# Altium footprint library MDBT53_PCBLIB_230719.PcbLib: 2 footprints
Each footprint in its own frame and in the unit in brackets; x right, y up, seen from the top. Pads: shape width x height; smd on the part's side, far side on the other; paste and mask are expansions set on the pad; w line width, h text height; cw(c..) or ccw(c..) is an arc to the next point about the centre after c.
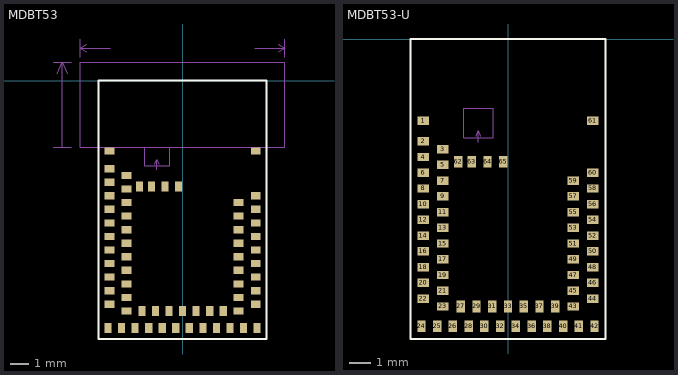
[diagram p0: the footprints below, top view; thin cyan lines are the x and y axes]

## MDBT53 [mm]
pads (65):
  rect 0.55x0.4 smd mask+0: 1(-4.05,-3.9) 2(-4.05,-4.875) 3(-3.1,-5.25) 4(-4.05,-5.625) 5(-3.1,-6) 6(-4.05,-6.375) 7(-3.1,-6.75) 8(-4.05,-7.125) 9(-3.1,-7.5) 10(-4.05,-7.875) 11(-3.1,-8.25) 12(-4.05,-8.625) 13(-3.1,-9) 14(-4.05,-9.375) 15(-3.1,-9.75) 16(-4.05,-10.125) 17(-3.1,-10.5) 18(-4.05,-10.875) 19(-3.1,-11.25) 20(-4.05,-11.625) 21(-3.1,-12) 22(-4.05,-12.375) 23(-3.1,-12.75) 43(3.1,-12.75) 44(4.05,-12.375) 45(3.1,-12) 46(4.05,-11.625) 47(3.1,-11.25) 48(4.05,-10.875) 49(3.1,-10.5) 50(4.05,-10.125) 51(3.1,-9.75) 52(4.05,-9.375) 53(3.1,-9) 54(4.05,-8.625) 55(3.1,-8.25) 56(4.05,-7.875) 57(3.1,-7.5) 58(4.05,-7.125) 59(3.1,-6.75) 60(4.05,-6.375) 61(4.05,-3.9)
  rect 0.4x0.55 smd mask+0: 24(-4.125,-13.7) 25(-3.375,-13.7) 26(-2.625,-13.7) 27(-2.25,-12.75) 28(-1.875,-13.7) 29(-1.5,-12.75) 30(-1.125,-13.7) 31(-0.75,-12.75) 32(-0.375,-13.7) 33(0,-12.75) 34(0.375,-13.7) 35(0.75,-12.75) 36(1.125,-13.7) 37(1.5,-12.75) 38(1.875,-13.7) 39(2.25,-12.75) 40(2.625,-13.7) 41(3.375,-13.7) 42(4.125,-13.7) 62(-2.375,-5.85) 63(-1.725,-5.85) 64(-0.975,-5.85) 65(-0.225,-5.85)
TopOverlay:
  lines w0.1: -4.65,-14.3 -4.65,0 0,0 4.65,0 4.65,-14.3 -4.65,-14.3
Mechanical2:
  lines w0.05: -7.15,-3.7 -6.15,-3.7 ; -7.15,1 -6.15,1 ; -6.93,0.39 -6.65,1 ; -6.65,-3.7 -6.65,1 ; -6.37,0.39 -6.65,1 ; -5.65,1.3 -5.65,2.3 ; -5.3,1.6 -5.65,1.8 ; -5.3,2 -5.65,1.8 ; -4,1.8 -5.65,1.8 ; 4,1.8 5.65,1.8 ; 5.3,1.6 5.65,1.8 ; 5.3,2 5.65,1.8 ; 5.65,1.3 5.65,2.3 ; -5.65,-3.7 -5.65,1 5.65,1 5.65,-3.7 -5.65,-3.7
  text "as wide as possible" at -7.45,-4.3 h0.35
  text "as wide as possible" at -3.6,1.7 h0.4
  text "No ground pad" at -2.875,-2.025 h0.45
Mechanical3:
  lines w0.03: -1.525,-4.625 -1.425,-4.373 ; -1.425,-4.925 -1.425,-4.373 ; -1.325,-4.625 -1.425,-4.373
  lines w0.05: -2.1,-4.7 -0.7,-4.7 -0.7,-3.7 -2.1,-3.7 -2.1,-4.7
  text "Toplayer no ground pad" at -2.525,-5.25 h0.2

## MDBT53-U [mm]
pads (65):
  rect 0.55x0.4 smd mask+0: 1(-4.05,-3.9) 2(-4.05,-4.875) 3(-3.1,-5.25) 4(-4.05,-5.625) 5(-3.1,-6) 6(-4.05,-6.375) 7(-3.1,-6.75) 8(-4.05,-7.125) 9(-3.1,-7.5) 10(-4.05,-7.875) 11(-3.1,-8.25) 12(-4.05,-8.625) 13(-3.1,-9) 14(-4.05,-9.375) 15(-3.1,-9.75) 16(-4.05,-10.125) 17(-3.1,-10.5) 18(-4.05,-10.875) 19(-3.1,-11.25) 20(-4.05,-11.625) 21(-3.1,-12) 22(-4.05,-12.375) 23(-3.1,-12.75) 43(3.1,-12.75) 44(4.05,-12.375) 45(3.1,-12) 46(4.05,-11.625) 47(3.1,-11.25) 48(4.05,-10.875) 49(3.1,-10.5) 50(4.05,-10.125) 51(3.1,-9.75) 52(4.05,-9.375) 53(3.1,-9) 54(4.05,-8.625) 55(3.1,-8.25) 56(4.05,-7.875) 57(3.1,-7.5) 58(4.05,-7.125) 59(3.1,-6.75) 60(4.05,-6.375) 61(4.05,-3.9)
  rect 0.4x0.55 smd mask+0: 24(-4.125,-13.7) 25(-3.375,-13.7) 26(-2.625,-13.7) 27(-2.25,-12.75) 28(-1.875,-13.7) 29(-1.5,-12.75) 30(-1.125,-13.7) 31(-0.75,-12.75) 32(-0.375,-13.7) 33(0,-12.75) 34(0.375,-13.7) 35(0.75,-12.75) 36(1.125,-13.7) 37(1.5,-12.75) 38(1.875,-13.7) 39(2.25,-12.75) 40(2.625,-13.7) 41(3.375,-13.7) 42(4.125,-13.7) 62(-2.375,-5.85) 63(-1.725,-5.85) 64(-0.975,-5.85) 65(-0.225,-5.85)
TopOverlay:
  lines w0.1: -4.65,-14.3 -4.65,0 0,0 4.65,0 4.65,-14.3 -4.65,-14.3
Mechanical3:
  lines w0.03: -1.525,-4.625 -1.425,-4.373 ; -1.425,-4.925 -1.425,-4.373 ; -1.325,-4.625 -1.425,-4.373
  lines w0.05: -2.1,-4.7 -0.7,-4.7 -0.7,-3.3 -2.1,-3.3 -2.1,-4.7
  text "Toplayer no ground pad" at -2.525,-5.25 h0.2